# Altium footprint library GTCS23.PcbLib: 1 footprints
Each footprint in its own frame and in the unit in brackets; x right, y up, seen from the top. Pads: shape width x height; smd on the part's side, far side on the other; paste and mask are expansions set on the pad; w line width, h text height; cw(c..) or ccw(c..) is an arc to the next point about the centre after c.
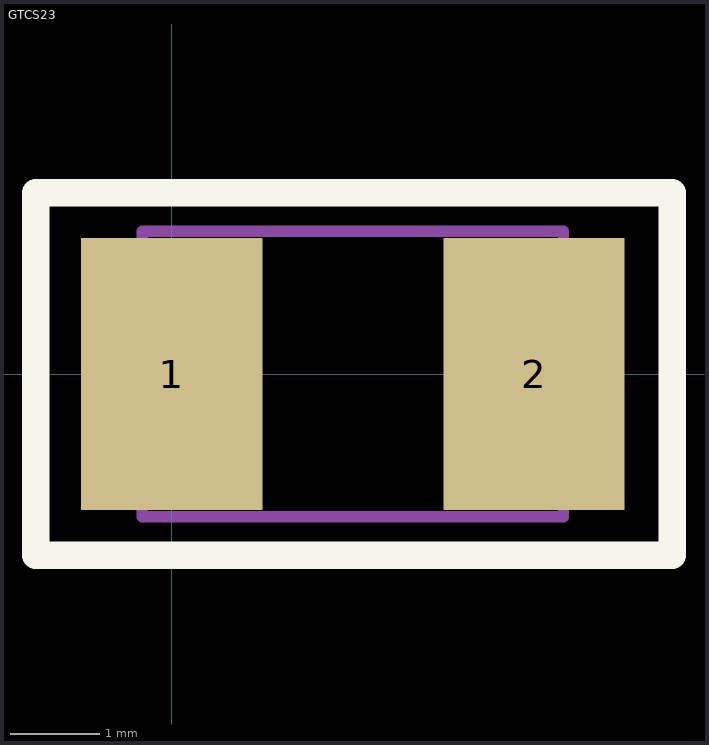
[diagram p0: the footprint, top view; thin cyan lines are the x and y axes]

## GTCS23 [mil]
height 120
pads (2):
  rect 80x120 smd: 1(0,0) 2(160,0)
TopOverlay:
  lines w12: 220,-80 -60,-80 -60,80 220,80 ; 221,-80 221,80
Mechanical1:
  lines w5: -13,-63 173,-63 173,63 -13,63 -13,-63
Mechanical4:
  text ".055" at 0,0 h1
3D body: height 120, standoff 0, extent -15.5,-65.5 175.5,65.5